# Altium footprint library Recom.PcbLib: 1 footprints
Each footprint in its own frame and in the unit in brackets; x right, y up, seen from the top. Pads: shape width x height; smd on the part's side, far side on the other; paste and mask are expansions set on the pad; w line width, h text height; cw(c..) or ccw(c..) is an arc to the next point about the centre after c.
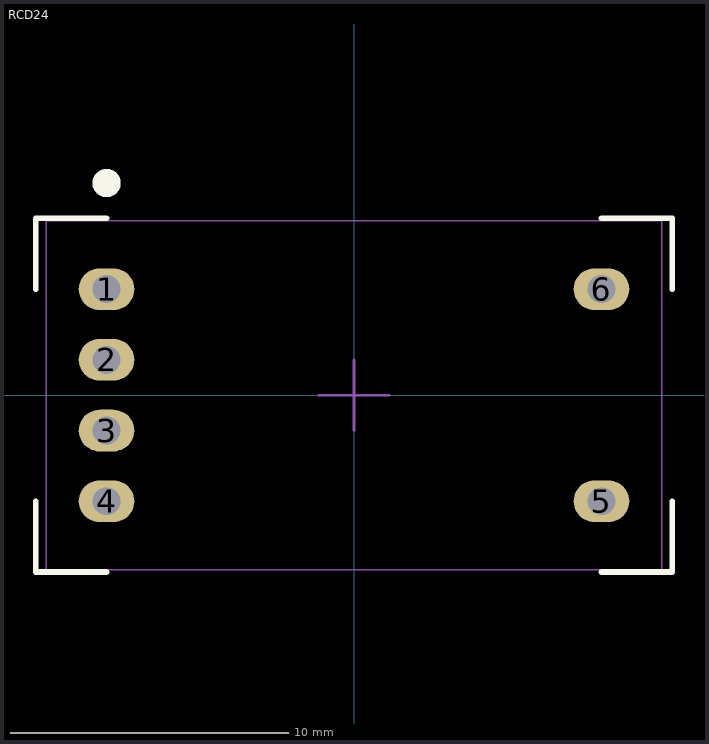
[diagram p0: the footprint, top view; thin cyan lines are the x and y axes]

## RCD24 [mm]
pads (6):
  oval 2x1.5 hole 1: 1(-8.89,3.81) 2(-8.89,1.27) 3(-8.89,-1.27) 4(-8.89,-3.81) 5(8.89,-3.81) 6(8.89,3.81)
Top Overlay:
  circle w0.508: c-8.89,7.62 r0.254
  lines w0.2: -11.43,-3.81 -11.43,-6.35 -8.89,-6.35 ; -11.43,3.81 -11.43,6.35 -8.89,6.35 ; 8.89,-6.35 11.43,-6.35 11.43,-3.81 ; 8.89,6.35 11.43,6.35 11.43,3.81
Mechanical 15:
  lines w0.05: -11.05,-6.275 -11.05,6.275 11.05,6.275 11.05,-6.275 -11.05,-6.275
  lines w0.1: -1.27,0 1.27,0 ; 0,-1.27 0,1.27
3D body "RCD-24-1.2.stp": height 8.5, standoff -4.1, extent -11.05,-6.275 11.05,6.275